# EAGLE library part UCC27524DR (library audio_buchse)
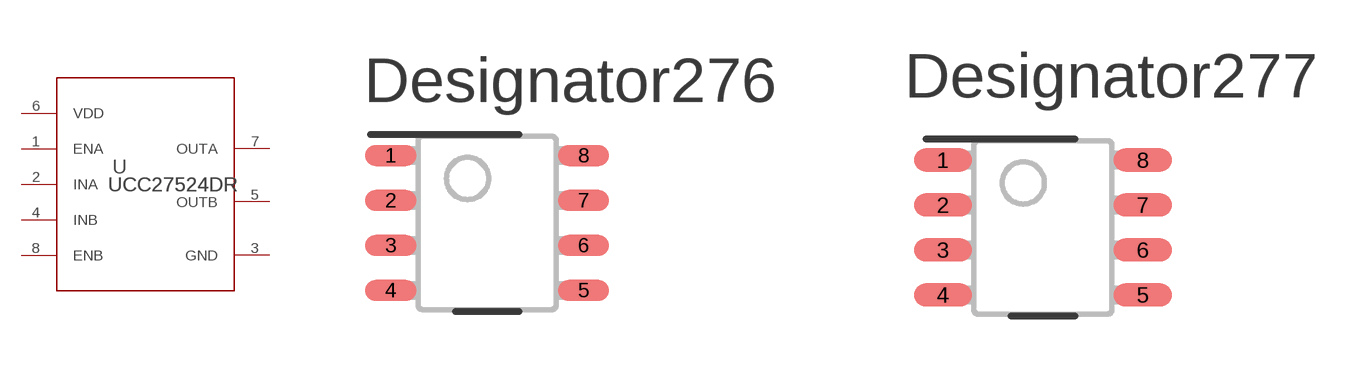
[diagram p0: symbol with the pads of D0008A_N; footprints D0008A_N, D0008A_M]

Designator prefix U

## UCC27524DRD0008A_N (Copyright: Copyright (C) 2026 Ultra Librarian. All rights reserved.; Datasheet: https://www.ti.com/lit/gpn/ucc27524; Description: 20V VDD, 5A/5A dual-channel low-side gate driver with 4V UVLO and -5V input capability 8-SOIC -40 to 140; Manufacturer_Name: Texas Instruments; Manufacturer_Part_Number: UCC27524DR; RefDes: RefDes; TYPE: TYPE)  [D0008A_N]
1  ENA  in
2  INA  in
3  GND  pwr
4  INB  in
5  OUTB  out
6  VDD  pwr
7  OUTA  out
8  ENB  in

## UCC27524DRD0008A_M (Copyright: Copyright (C) 2026 Ultra Librarian. All rights reserved.; Datasheet: https://www.ti.com/lit/gpn/ucc27524; Description: 20V VDD, 5A/5A dual-channel low-side gate driver with 4V UVLO and -5V input capability 8-SOIC -40 to 140; Manufacturer_Name: Texas Instruments; Manufacturer_Part_Number: UCC27524DR; RefDes: RefDes; TYPE: TYPE)  [D0008A_M]
Pads as for D0008A_N

## UCC27524DRD0008A_L (Copyright: Copyright (C) 2026 Ultra Librarian. All rights reserved.; Datasheet: https://www.ti.com/lit/gpn/ucc27524; Description: 20V VDD, 5A/5A dual-channel low-side gate driver with 4V UVLO and -5V input capability 8-SOIC -40 to 140; Manufacturer_Name: Texas Instruments; Manufacturer_Part_Number: UCC27524DR; RefDes: RefDes; TYPE: TYPE)  [D0008A_L]
Pads as for D0008A_N

## Footprint D0008A_N (pad centres in mm)
smd 1.45 x 0.6: 1 -2.725,1.905; 2 -2.725,0.635; 3 -2.725,-0.635; 4 -2.725,-1.905; 5 2.725,-1.905; 6 2.725,-0.635; 7 2.725,0.635; 8 2.725,1.905

## Footprint D0008A_M (pad centres in mm)
smd 1.65 x 0.65: 1 -2.825,1.905; 2 -2.825,0.635; 3 -2.825,-0.635; 4 -2.825,-1.905; 5 2.825,-1.905; 6 2.825,-0.635; 7 2.825,0.635; 8 2.825,1.905

## Footprint D0008A_L (pad centres in mm)
smd 1.25 x 0.55: 1 -2.625,1.905; 2 -2.625,0.635; 3 -2.625,-0.635; 4 -2.625,-1.905; 5 2.625,-1.905; 6 2.625,-0.635; 7 2.625,0.635; 8 2.625,1.905